# Altium schematic symbol library SCH - POWER - LINEAR VREG - TI LP3874ES-2.5.SchLib: 1 symbol
Pins are listed as number, name and electrical type; pins without a type are passive.

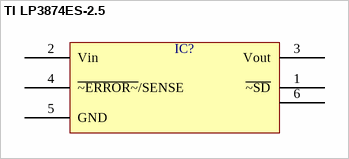
[diagram p0: symbol TI LP3874ES-2.5]

## TI LP3874ES-2.5
designator IC?  (value not drawn)
pins: 1 ~{~SD}, 2 Vin, 3 Vout, 4 ~{~ERROR~}/SENSE, 5 GND, 6